# Altium footprint library PcbLib1.PcbLib: 21 footprints (part 2 of 2)
Each footprint in its own frame and in the unit in brackets; x right, y up, seen from the top. Pads: shape width x height; smd on the part's side, far side on the other; paste and mask are expansions set on the pad; w line width, h text height; cw(c..) or ccw(c..) is an arc to the next point about the centre after c.
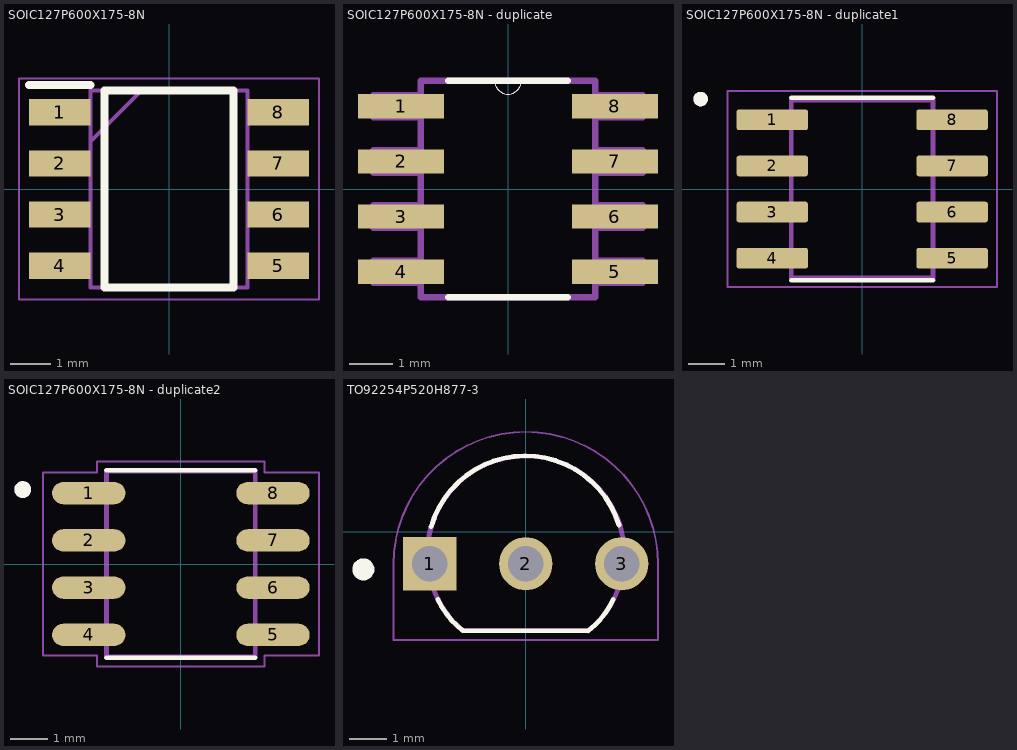
[diagram p1: the footprints below, top view; thin cyan lines are the x and y axes]

## SOIC127P600X175-8N [mm]
pads (8):
  rect 1.525x0.65 smd: 1(-2.712,1.905) 2(-2.712,0.635) 3(-2.712,-0.635) 4(-2.712,-1.905) 5(2.712,-1.905) 6(2.712,-0.635) 7(2.712,0.635) 8(2.712,1.905)
Top Overlay:
  lines w0.2: -3.475,2.58 -1.95,2.58 ; -1.6,-2.45 1.6,-2.45 1.6,2.45 -1.6,2.45 -1.6,-2.45
Mechanical 13:
  lines w0.1: -1.95,1.18 -0.68,2.45 ; -1.95,-2.45 1.95,-2.45 1.95,2.45 -1.95,2.45 -1.95,-2.45
Mechanical 15:
  lines w0.05: -3.725,-2.75 3.725,-2.75 3.725,2.75 -3.725,2.75 -3.725,-2.75
3D body "NE555DR.stp": height 1.75, standoff 0, extent -3,-2.45 3,2.45

## SOIC127P600X175-8N - duplicate [mil]
pads (8):
  rect 78x22 smd: 1(-97,75) 2(-97,25) 3(-97,-25) 4(-97,-75) 5(97,-75) 6(97,-25) 7(97,25) 8(97,75)
Top Overlay:
  lines w0: -12,98 ccw(c0,98) 12,98
  lines w6: -54,-98 54,-98 ; -54,98 -12,98 12,98 54,98
Mechanical 13:
  lines w0: -12,98 ccw(c0,98) 12,98
  lines w6: -122,-85 -79,-85 -79,-65 -122,-65 -122,-85 ; -122,-35 -79,-35 -79,-15 -122,-15 -122,-35 ; -122,15 -79,15 -79,35 -122,35 -122,15 ; -122,65 -79,65 -79,85 -122,85 -122,65 ; -79,-98 -79,98 -12,98 12,98 79,98 79,-98 -79,-98 ; 79,-85 122,-85 122,-65 79,-65 79,-85 ; 79,-35 122,-35 122,-15 79,-15 79,-35 ; 79,15 122,15 122,35 79,35 79,15 ; 79,65 122,65 122,85 79,85 79,65
3D body "step_temp.STEP": height 68.9, standoff 0, extent -118.11,-96.46 118.11,96.46

## SOIC127P600X175-8N - duplicate1 [mm]
pads (8):
  rrect25% 1.97x0.57 smd paste+0 mask+0.102: 1(-2.475,1.905) 2(-2.475,0.635) 3(-2.475,-0.635) 4(-2.475,-1.905) 5(2.475,-1.905) 6(2.475,-0.635) 7(2.475,0.635) 8(2.475,1.905)
Top Overlay:
  circle w0.2: c-4.445,2.475 r0.1
  lines w0.127: -1.95,-2.51 1.95,-2.51 ; -1.95,2.51 1.95,2.51
Mechanical 13:
  circle w0.2: c-4.445,2.475 r0.1
  lines w0.127: -1.95,-2.45 -1.95,2.45 1.95,2.45 1.95,-2.45 -1.95,-2.45
Mechanical 15:
  lines w0.05: -3.71,-2.7 -3.71,2.7 3.71,2.7 3.71,-2.7 -3.71,-2.7
3D body "step_temp.STEP": height 1.75, standoff 0, extent -2.995,-2.452 2.995,2.452

## SOIC127P600X175-8N - duplicate2 [mm]
pads (8):
  oval 1.97x0.6 smd: 1(-2.475,1.905) 2(-2.475,0.635) 3(-2.475,-0.635) 4(-2.475,-1.905) 5(2.475,-1.905) 6(2.475,-0.635) 7(2.475,0.635) 8(2.475,1.905)
Top Overlay:
  circle w0.25: c-4.25,2 r0.1
  lines w0.127: -2,-2.519 2,-2.519 ; -2,2.519 2,2.519
Mechanical 13:
  circle w0.25: c-4.25,2 r0.1
  lines w0.127: -2,-2.5 2,-2.5 2,2.5 -2,2.5 -2,-2.5
Mechanical 15:
  lines w0.05: -3.71,-2.46 -2.25,-2.46 -2.25,-2.75 2.25,-2.75 2.25,-2.46 3.71,-2.46 3.71,2.46 2.25,2.46 2.25,2.75 -2.25,2.75 -2.25,2.46 -3.71,2.46 -3.71,-2.46
3D body "step_temp.STEP": height 1.75, standoff 0, extent -3,-2.45 3,2.45

## TO92254P520H877-3 [mm]
pads (3):
  rect 1.41x1.41 / inner round 1.41 / far side rect 1.41x1.41 hole 0.94: 1(-2.54,-0.853)
  round 1.41 hole 0.94: 2(0,-0.853) 3(2.54,-0.853)
Top Overlay:
  circle w0.3: c-4.3,-1 r0.141
  lines w0.127: -2.506,0.128 cw(c-0.013,-0.587) 2.468,0.172 ; -2.326,-1.791 ccw(c-0.4,-0.934) -1.669,-2.617 ; -1.661,-2.623 1.661,-2.623 ; 1.659,-2.618 ccw(c0.39,-0.935) 2.316,-1.792
Mechanical 13:
  lines w0.127: -1.679,-2.608 cw(c0,-0.608) 1.643,-2.637 ; -1.661,-2.623 1.661,-2.623
Mechanical 15:
  lines w0.05: -3.5,-2.873 -3.5,-0.857 cw(c0,-0.857) 3.5,-0.857 3.5,-2.873 -3.5,-2.873
3D body "step_temp.STEP": height 8.77, standoff -13, extent -2.83,-1.43 2.83,2.19